# Altium footprint library 7.接插件封装.PcbLib: 201 footprints (part 3 of 13)
Each footprint in its own frame and in the unit in brackets; x right, y up, seen from the top. Pads: shape width x height; smd on the part's side, far side on the other; paste and mask are expansions set on the pad; w line width, h text height; cw(c..) or ccw(c..) is an arc to the next point about the centre after c.
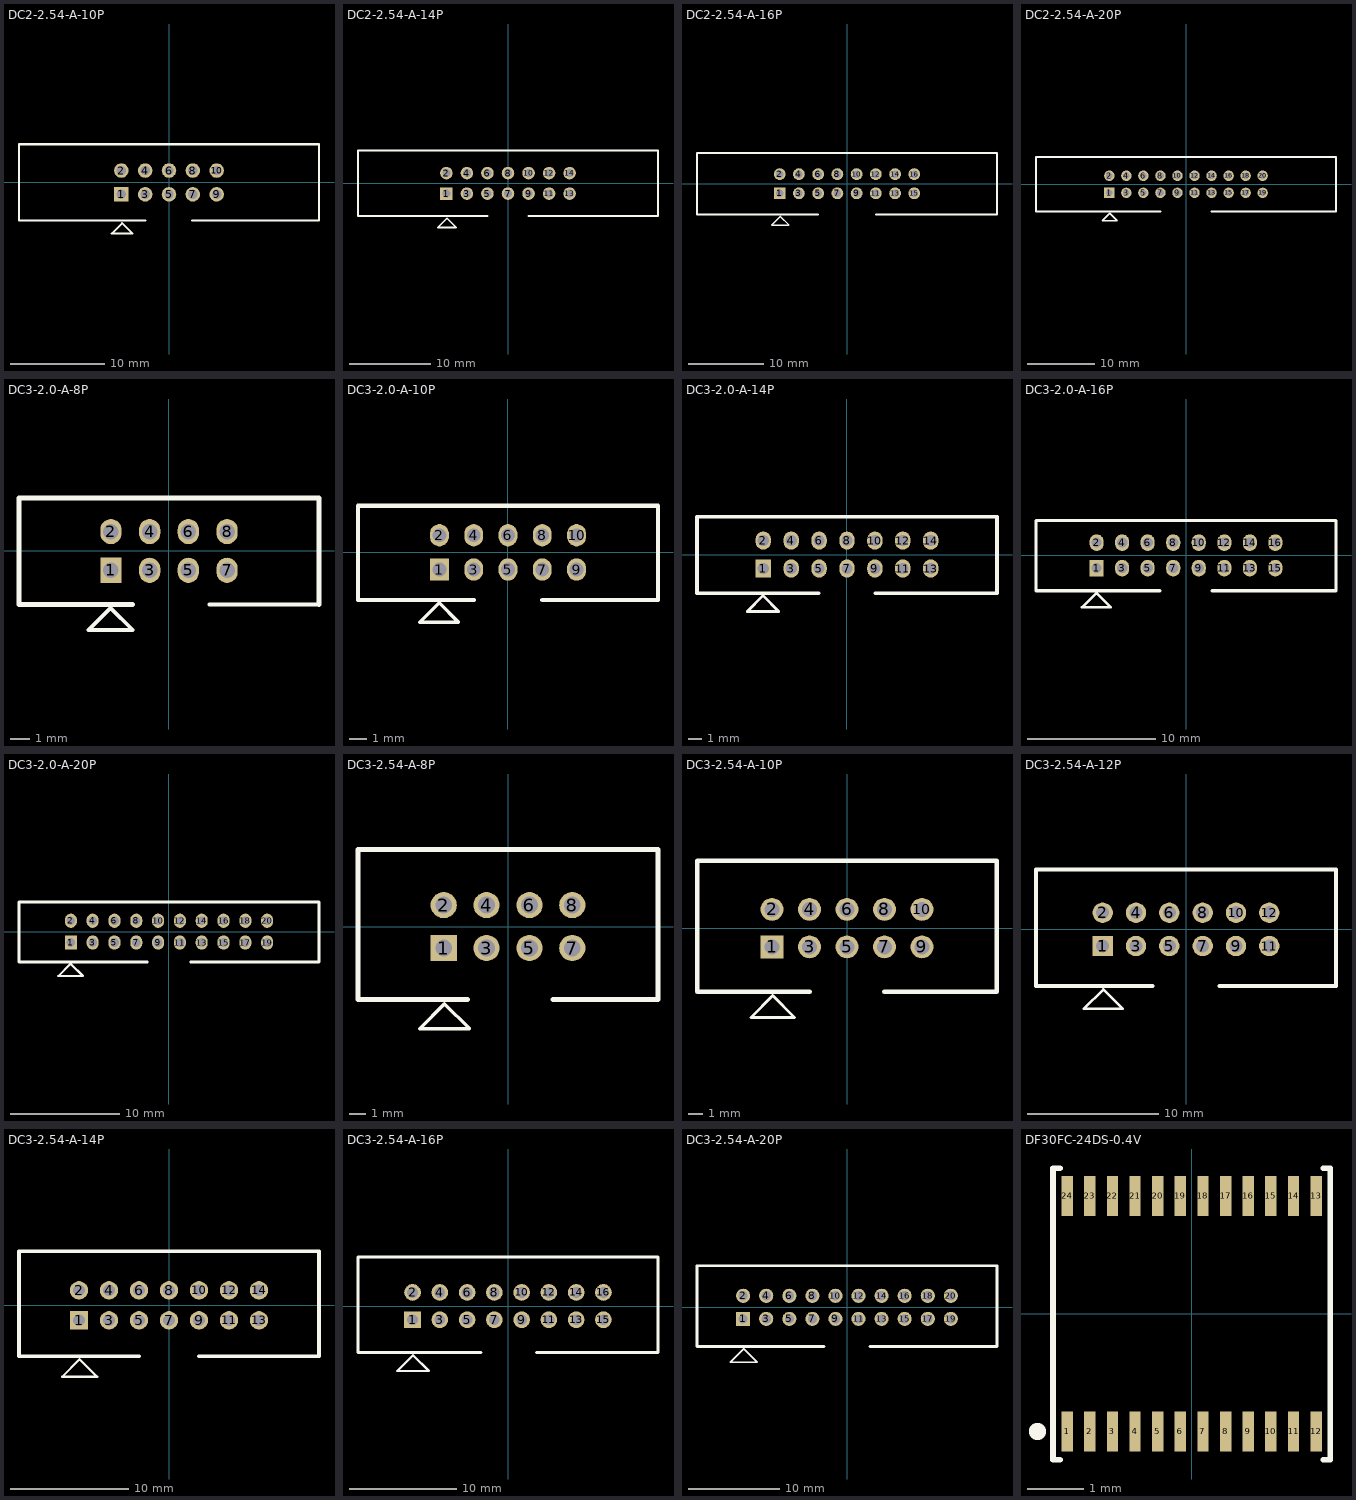
[diagram p2: the footprints below, top view; thin cyan lines are the x and y axes]

## DC2-2.54-A-10P [mm]
pads (10):
  rect 1.55x1.55 hole 1: 1(-5.08,-1.27)
  round 1.55 hole 1: 2(-5.08,1.27) 3(-2.54,-1.27) 4(-2.54,1.27) 5(0,-1.27) 6(0,1.27) 7(2.54,-1.27) 8(2.54,1.27) 9(5.08,-1.27) 10(5.08,1.27)
Top Overlay:
  lines w0.2: -3.868,-5.464 -6.126,-5.464 -4.997,-4.33 -3.863,-5.459
  lines w0.254: -2.539,-4.064 -16.002,-4.064 -16.002,4.064 16.002,4.064 16.002,-4.064 2.5,-4.064

## DC2-2.54-A-14P [mm]
pads (14):
  rect 1.55x1.55 hole 1: 1(-7.62,-1.27)
  round 1.55 hole 1: 2(-7.62,1.27) 3(-5.08,-1.27) 4(-5.08,1.27) 5(-2.54,-1.27) 6(-2.54,1.27) 7(0,-1.27) 8(0,1.27) 9(2.54,-1.27) 10(2.54,1.27) 11(5.08,-1.27) 12(5.08,1.27) 13(7.62,-1.27) 14(7.62,1.27)
Top Overlay:
  lines w0.2: -6.408,-5.464 -8.666,-5.464 -7.537,-4.33 -6.403,-5.459
  lines w0.254: -2.54,-4.064 -18.542,-4.064 -18.542,4.064 18.542,4.064 18.542,-4.064 2.54,-4.064

## DC2-2.54-A-16P [mm]
pads (16):
  rect 1.55x1.55 hole 1: 1(-8.89,-1.27)
  round 1.55 hole 1: 2(-8.89,1.27) 3(-6.35,-1.27) 4(-6.35,1.27) 5(-3.81,-1.27) 6(-3.81,1.27) 7(-1.27,-1.27) 8(-1.27,1.27) 9(1.27,-1.27) 10(1.27,1.27) 11(3.81,-1.27) 12(3.81,1.27) 13(6.35,-1.27) 14(6.35,1.27) 15(8.89,-1.27) 16(8.89,1.27)
Top Overlay:
  lines w0.2: -7.678,-5.464 -9.936,-5.464 -8.807,-4.33 -7.673,-5.459
  lines w0.254: -3.81,-4.064 -19.812,-4.064 -19.812,4.064 19.812,4.064 19.812,-4.064 6.31,-4.064 ; 3.81,-4.064 12.192,-4.064

## DC2-2.54-A-20P [mm]
pads (20):
  rect 1.55x1.55 hole 1: 1(-11.43,-1.27)
  round 1.55 hole 1: 2(-11.43,1.27) 3(-8.89,-1.27) 4(-8.89,1.27) 5(-6.35,-1.27) 6(-6.35,1.27) 7(-3.81,-1.27) 8(-3.81,1.27) 9(-1.27,-1.27) 10(-1.27,1.27) 11(1.27,-1.27) 12(1.27,1.27) 13(3.81,-1.27) 14(3.81,1.27) 15(6.35,-1.27) 16(6.35,1.27) 17(8.89,-1.27) 18(8.89,1.27) 19(11.43,-1.27) 20(11.43,1.27)
Top Overlay:
  lines w0.2: -10.218,-5.464 -12.476,-5.464 -11.347,-4.33 -10.213,-5.459
  lines w0.254: -3.81,-4.064 -22.352,-4.064 -22.352,4.064 22.352,4.064 22.352,-4.064 3.81,-4.064

## DC3-2.0-A-8P [mm]
pads (8):
  rect 1.1x1.3 hole 0.8: 1(-3,-1)
  oval 1.1x1.3 hole 0.8: 2(-3,1) 3(-1,-1) 4(-1,1) 5(1,-1) 6(1,1) 7(3,-1) 8(3,1)
Top Overlay:
  lines w0.2: -1.893,-4.077 -4.151,-4.077 -3.022,-2.943 -1.888,-4.072 ; 2.082,-2.775 7.75,-2.775
  lines w0.254: -1.874,-2.775 -7.75,-2.775 -7.75,2.725 7.75,2.725 7.75,-2.775

## DC3-2.0-A-10P [mm]
pads (10):
  rect 1.1x1.3 hole 0.8: 1(-4,-1)
  oval 1.1x1.3 hole 0.8: 2(-4,1) 3(-2,-1) 4(-2,1) 5(0,-1) 6(0,1) 7(2,-1) 8(2,1) 9(4,-1) 10(4,1)
Top Overlay:
  lines w0.2: -2.893,-4.077 -5.151,-4.077 -4.022,-2.943 -2.888,-4.072
  lines w0.254: -1.985,-2.775 -8.75,-2.775 -8.75,2.725 8.75,2.725 8.75,-2.775 2.007,-2.775

## DC3-2.0-A-14P [mm]
pads (14):
  rect 1.1x1.3 hole 0.8: 1(-6,-1)
  oval 1.1x1.3 hole 0.8: 2(-6,1) 3(-4,-1) 4(-4,1) 5(-2,-1) 6(-2,1) 7(0,-1) 8(0,1) 9(2,-1) 10(2,1) 11(4,-1) 12(4,1) 13(6,-1) 14(6,1)
Top Overlay:
  lines w0.2: -4.893,-4.077 -7.151,-4.077 -6.022,-2.943 -4.888,-4.072
  lines w0.254: -2.032,-2.775 -10.75,-2.775 -10.75,2.725 10.75,2.725 10.75,-2.775 2.032,-2.775

## DC3-2.0-A-16P [mm]
pads (16):
  rect 1.1x1.3 hole 0.8: 1(-7,-1)
  oval 1.1x1.3 hole 0.8: 2(-7,1) 3(-5,-1) 4(-5,1) 5(-3,-1) 6(-3,1) 7(-1,-1) 8(-1,1) 9(1,-1) 10(1,1) 11(3,-1) 12(3,1) 13(5,-1) 14(5,1) 15(7,-1) 16(7,1)
Top Overlay:
  lines w0.2: -5.893,-4.077 -8.151,-4.077 -7.022,-2.943 -5.888,-4.072
  lines w0.254: -2.032,-2.775 -11.75,-2.775 -11.75,2.725 11.746,2.725 11.75,2.721 11.75,-2.775 2.038,-2.775

## DC3-2.0-A-20P [mm]
pads (20):
  rect 1.1x1.3 hole 0.8: 1(-9,-1)
  oval 1.1x1.3 hole 0.8: 2(-9,1) 3(-7,-1) 4(-7,1) 5(-5,-1) 6(-5,1) 7(-3,-1) 8(-3,1) 9(-1,-1) 10(-1,1) 11(1,-1) 12(1,1) 13(3,-1) 14(3,1) 15(5,-1) 16(5,1) 17(7,-1) 18(7,1) 19(9,-1) 20(9,1)
Top Overlay:
  lines w0.2: -7.893,-4.077 -10.151,-4.077 -9.022,-2.943 -7.888,-4.072
  lines w0.254: -2,-2.775 -13.75,-2.775 -13.75,2.725 13.75,2.725 13.75,-2.775 2,-2.775

## DC3-2.54-A-8P [mm]
pads (8):
  rect 1.55x1.55 hole 1: 1(-3.81,-1.27)
  round 1.55 hole 1: 2(-3.81,1.27) 3(-1.27,-1.27) 4(-1.27,1.27) 5(1.27,-1.27) 6(1.27,1.27) 7(3.81,-1.27) 8(3.81,1.27)
Top Overlay:
  lines w0.2: -5.234,-6.045 -3.764,-4.569 -2.281,-6.045
  lines w0.203: -5.234,-6.045 -2.281,-6.045
  lines w0.305: -2.413,-4.318 -8.89,-4.318 -8.89,4.572 8.89,4.572 8.89,-4.318 2.667,-4.318

## DC3-2.54-A-10P [mm]
pads (10):
  rect 1.55x1.55 hole 1: 1(-5.08,-1.27)
  round 1.55 hole 1: 2(-5.08,1.27) 3(-2.54,-1.27) 4(-2.54,1.27) 5(0,-1.27) 6(0,1.27) 7(2.54,-1.27) 8(2.54,1.27) 9(5.08,-1.27) 10(5.08,1.27)
Top Overlay:
  lines w0.2: -6.504,-6.045 -5.034,-4.569 -3.551,-6.045
  lines w0.203: -6.504,-6.045 -3.551,-6.045
  lines w0.305: -2.54,-4.318 -10.16,-4.318 -10.16,4.572 10.16,4.572 10.16,-4.318 2.54,-4.318

## DC3-2.54-A-12P [mm]
pads (12):
  rect 1.55x1.55 hole 1: 1(-6.35,-1.27)
  round 1.55 hole 1: 2(-6.35,1.27) 3(-3.81,-1.27) 4(-3.81,1.27) 5(-1.27,-1.27) 6(-1.27,1.27) 7(1.27,-1.27) 8(1.27,1.27) 9(3.81,-1.27) 10(3.81,1.27) 11(6.35,-1.27) 12(6.35,1.27)
Top Overlay:
  lines w0.2: -7.774,-6.045 -6.304,-4.569 -4.821,-6.045
  lines w0.203: -7.774,-6.045 -4.821,-6.045
  lines w0.305: -2.54,-4.318 -11.43,-4.318 -11.43,4.572 11.43,4.572 11.43,-4.318 2.54,-4.318

## DC3-2.54-A-14P [mm]
pads (14):
  rect 1.55x1.55 hole 1: 1(-7.62,-1.27)
  round 1.55 hole 1: 2(-7.62,1.27) 3(-5.08,-1.27) 4(-5.08,1.27) 5(-2.54,-1.27) 6(-2.54,1.27) 7(0,-1.27) 8(0,1.27) 9(2.54,-1.27) 10(2.54,1.27) 11(5.08,-1.27) 12(5.08,1.27) 13(7.62,-1.27) 14(7.62,1.27)
Top Overlay:
  lines w0.2: -9.044,-6.045 -7.574,-4.569 -6.091,-6.045
  lines w0.203: -9.044,-6.045 -6.091,-6.045
  lines w0.305: -2.54,-4.318 -12.7,-4.318 -12.7,4.572 12.7,4.572 12.7,-4.318 2.54,-4.318

## DC3-2.54-A-16P [mm]
pads (16):
  rect 1.55x1.55 hole 1: 1(-8.89,-1.27)
  round 1.55 hole 1: 2(-8.89,1.27) 3(-6.35,-1.27) 4(-6.35,1.27) 5(-3.81,-1.27) 6(-3.81,1.27) 7(-1.27,-1.27) 8(-1.27,1.27) 9(1.27,-1.27) 10(1.27,1.27) 11(3.81,-1.27) 12(3.81,1.27) 13(6.35,-1.27) 14(6.35,1.27) 15(8.89,-1.27) 16(8.89,1.27)
Top Overlay:
  lines w0.2: -10.314,-6.045 -8.844,-4.569 -7.361,-6.045
  lines w0.203: -10.314,-6.045 -7.361,-6.045
  lines w0.305: -2.54,-4.318 -13.97,-4.318 -13.97,4.572 13.97,4.572 13.97,-4.318 2.667,-4.318

## DC3-2.54-A-20P [mm]
pads (20):
  rect 1.55x1.55 hole 1: 1(-11.43,-1.27)
  round 1.55 hole 1: 2(-11.43,1.27) 3(-8.89,-1.27) 4(-8.89,1.27) 5(-6.35,-1.27) 6(-6.35,1.27) 7(-3.81,-1.27) 8(-3.81,1.27) 9(-1.27,-1.27) 10(-1.27,1.27) 11(1.27,-1.27) 12(1.27,1.27) 13(3.81,-1.27) 14(3.81,1.27) 15(6.35,-1.27) 16(6.35,1.27) 17(8.89,-1.27) 18(8.89,1.27) 19(11.43,-1.27) 20(11.43,1.27)
Top Overlay:
  lines w0.2: -12.854,-6.045 -11.384,-4.569 -9.901,-6.045
  lines w0.203: -12.854,-6.045 -9.901,-6.045
  lines w0.305: -2.54,-4.318 -16.51,-4.318 -16.51,4.572 16.51,4.572 16.51,-4.318 2.54,-4.318

## DF30FC-24DS-0.4V [mm]
pads (24):
  rect 0.2x0.7 smd: 1(-2.2,-2.08) 2(-1.8,-2.08) 3(-1.4,-2.08) 4(-1,-2.08) 5(-0.6,-2.08) 6(-0.2,-2.08) 7(0.2,-2.08) 8(0.6,-2.08) 9(1,-2.08) 10(1.4,-2.08) 11(1.8,-2.08) 12(2.2,-2.08) 13(2.2,2.08) 14(1.8,2.08) 15(1.4,2.08) 16(1,2.08) 17(0.6,2.08) 18(0.2,2.08) 19(-0.2,2.08) 20(-0.6,2.08) 21(-1,2.08) 22(-1.4,2.08) 23(-1.8,2.08) 24(-2.2,2.08)
Top Overlay:
  circle w0.254: c-2.725,-2.08 r0.025
  lines w0.1: -2.325,-2.58 -2.45,-2.58 -2.45,2.57 -2.325,2.57 ; 2.325,-2.58 2.45,-2.58 2.45,2.57 2.325,2.57